# EAGLE library part 74AC11823 (library 74ac-logic)
9-bit bus interface LATCH
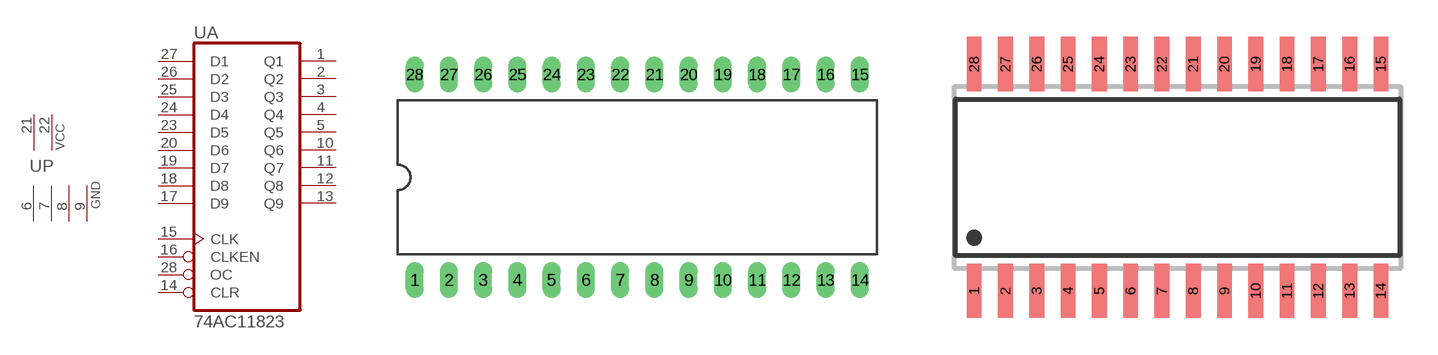
[diagram p52: symbol with the pads of DIL28-6; footprints DIL28-6, SO28W]

Designator prefix U; gates A=7411823 P=2PWR4GND

## 74AC11823  [DIL28-6]
1  A:Q1  hiz
2  A:Q2  hiz
3  A:Q3  hiz
4  A:Q4  hiz
5  A:Q5  hiz
6  P:GND  pwr
7  P:GND  pwr
8  P:GND  pwr
9  P:GND  pwr
10  A:Q6  hiz
11  A:Q7  hiz
12  A:Q8  hiz
13  A:Q9  hiz
14  A:CLR  in
15  A:CLK  in
16  A:CLKEN  in
17  A:D9  in
18  A:D8  in
19  A:D7  in
20  A:D6  in
21  P:VCC  pwr
22  P:VCC  pwr
23  A:D5  in
24  A:D4  in
25  A:D3  in
26  A:D2  in
27  A:D1  in
28  A:OC  in

## 74AC11823D  [SO28W]
Pads as for DIL28-6

## Footprint DIL28-6 (pad centres in mm)
Dual In Line Package 0.6 inch
drill 0.813 long: 1 -16.51,-7.62; 2 -13.97,-7.62; 3 -11.43,-7.62; 4 -8.89,-7.62; 5 -6.35,-7.62; 6 -3.81,-7.62; 7 -1.27,-7.62; 8 1.27,-7.62; 9 3.81,-7.62; 10 6.35,-7.62; 11 8.89,-7.62; 12 11.43,-7.62; 13 13.97,-7.62; 14 16.51,-7.62; 15 16.51,7.62; 16 13.97,7.62; 17 11.43,7.62; 18 8.89,7.62; 19 6.35,7.62; 20 3.81,7.62; 21 1.27,7.62; 22 -1.27,7.62; 23 -3.81,7.62; 24 -6.35,7.62; 25 -8.89,7.62; 26 -11.43,7.62; 27 -13.97,7.62; 28 -16.51,7.62

## Footprint SO28W (pad centres in mm)
SMALL OUTLINE INTEGRATED CIRCUIT wide body 7.5 mm/JEDEC MO-119AB
smd 0.6 x 2.2: 1 -8.255,-4.6; 2 -6.985,-4.6; 3 -5.715,-4.6; 4 -4.445,-4.6; 5 -3.175,-4.6; 6 -1.905,-4.6; 7 -0.635,-4.6; 8 0.635,-4.6; 9 1.905,-4.6; 10 3.175,-4.6; 11 4.445,-4.6; 12 5.715,-4.6; 13 6.985,-4.6; 14 8.255,-4.6; 15 8.255,4.6; 16 6.985,4.6; 17 5.715,4.6; 18 4.445,4.6; 19 3.175,4.6; 20 1.905,4.6; 21 0.635,4.6; 22 -0.635,4.6; 23 -1.905,4.6; 24 -3.175,4.6; 25 -4.445,4.6; 26 -5.715,4.6; 27 -6.985,4.6; 28 -8.255,4.6